# EAGLE library part SLIDER160MM_RESINT_THIN (library alarm)
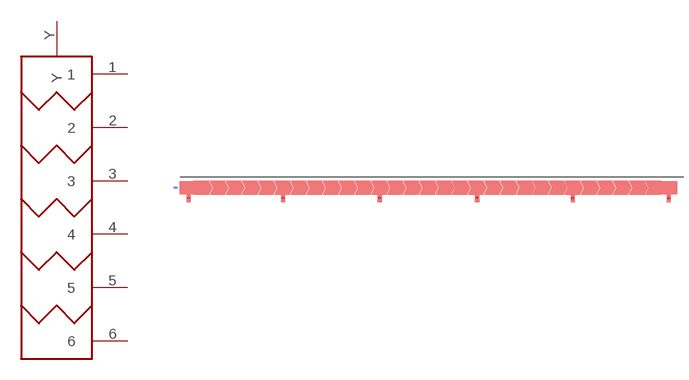
[diagram p3: symbol with the pads of SLIDER160MM_RI_THIN; footprint SLIDER160MM_RI_THIN]

Designator prefix -

## SLIDER160MM_RESINT_THIN  [SLIDER160MM_RI_THIN]
1  1
2  2
3  3
4  4
5  5
6  6
Y  Y

## Footprint SLIDER160MM_RI_THIN (pad centres in mm)
smd 1.27 x 2.54: 1 -79.28,-5.19; 2 -49.98,-5.19; 3 -20.08,-5.19; 4 10.12,-5.19; 5 39.72,-5.19; 6 69.52,-5.19
smd 1.27 x 0.635 bottom: Y -83.285,-2